# EAGLE library part DIN41612 (library Ben)
DIN41612 32 pin
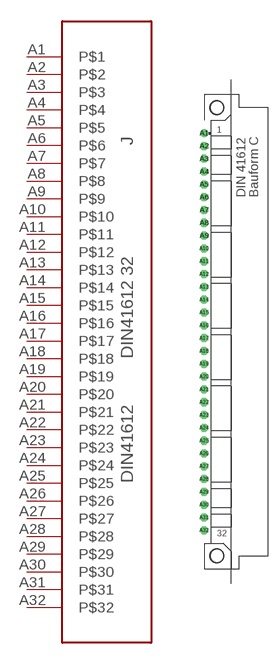
[diagram p0: symbol with the pads of DIN41612_32; footprint DIN41612_32]

Designator prefix J

## DIN41612  [DIN41612_32]
A1  P$1
A2  P$2
A3  P$3
A4  P$4
A5  P$5
A6  P$6
A7  P$7
A8  P$8
A9  P$9
A10  P$10
A11  P$11
A12  P$12
A13  P$13
A14  P$14
A15  P$15
A16  P$16
A17  P$17
A18  P$18
A19  P$19
A20  P$20
A21  P$21
A22  P$22
A23  P$23
A24  P$24
A25  P$25
A26  P$26
A27  P$27
A28  P$28
A29  P$29
A30  P$30
A31  P$31
A32  P$32

## Footprint DIN41612_32 (pad centres in mm)
EUROCARD, 2 holes, C, 2.54
drill 0.914 pad 1.6 round: A1 154.94,39.37
drill 0.914 pad 1.6 octagon: A2 154.94,36.83; A3 154.94,34.29; A4 154.94,31.75; A5 154.94,29.21; A6 154.94,26.67; A7 154.94,24.13; A8 154.94,21.59; A9 154.94,19.05; A10 154.94,16.51; A11 154.94,13.97; A12 154.94,11.43; A13 154.94,8.89; A14 154.94,6.35; A15 154.94,3.81; A16 154.94,1.27; A17 154.94,-1.27; A18 154.94,-3.81; A19 154.94,-6.35; A20 154.94,-8.89; A21 154.94,-11.43; A22 154.94,-13.97; A23 154.94,-16.51; A24 154.94,-19.05; A25 154.94,-21.59; A26 154.94,-24.13; A27 154.94,-26.67; A28 154.94,-29.21; A29 154.94,-31.75; A30 154.94,-34.29; A31 154.94,-36.83; A32 154.94,-39.37
hole 2.794 at 157.48,44.45
hole 2.794 at 157.48,-44.45